# Altium footprint library 排针.PCBLIB: 50 footprints (part 4 of 4)
Each footprint in its own frame and in the unit in brackets; x right, y up, seen from the top. Pads: shape width x height; smd on the part's side, far side on the other; paste and mask are expansions set on the pad; w line width, h text height; cw(c..) or ccw(c..) is an arc to the next point about the centre after c.
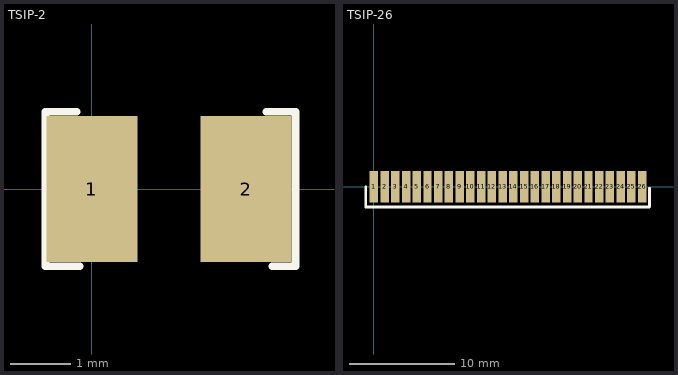
[diagram p3: the footprints below, top view; thin cyan lines are the x and y axes]

## TSIP-2 [mm]
pads (2):
  rect 1.5x2.4 smd: 1(0,0) 2(2.54,0)
TopOverlay:
  lines w0.127: -0.254,1.27 -0.762,1.27 -0.762,-1.27 -0.203,-1.27 ; 2.87,1.27 3.353,1.27 3.353,-1.27 2.972,-1.27

## TSIP-26 [mm] "间距0.9mm"
pads (26):
  rect 0.8x3 smd: 1(0,0) 2(1.016,0) 3(2.032,0) 4(3.048,0) 5(4.064,0) 6(5.08,0) 7(6.096,0) 8(7.112,0) 9(8.128,0) 10(9.144,0) 11(10.16,0) 12(11.176,0) 13(12.192,0) 14(13.208,0) 15(14.224,0) 16(15.24,0) 17(16.256,0) 18(17.272,0) 19(18.288,0) 20(19.304,0) 21(20.32,0) 22(21.336,0) 23(22.352,0) 24(23.368,0) 25(24.384,0) 26(25.4,0)
TopOverlay:
  lines w0.254: -0.762,0 -0.762,-1.905 26.1,-1.905 26.1,-0.127